# EAGLE library part DMN6066SSD (library Eagle CMR)
60V DUAL N-CHANNEL ENHANCEMENT MODE MOSFET Low on-resistance
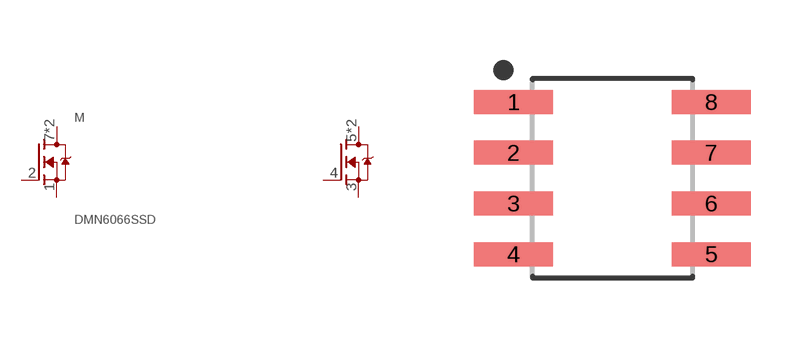
[diagram p16: symbol with the pads of SOIC_8; footprint SOIC_8]

Designator prefix M

## DMN6066SSD (LCSC#: C155334; LCSC_LINK: https://lcsc.com/product-detail/MOSFET_Diodes-Incorporated_DMN6066SSD-13_Diodes-Incorporated-DMN6066SSD-13_C155334.html/?href=jlc-SMT; MANUFACTURER: Diodes Incorporated; MFR#: DMN6066SSD-13)  [SOIC_8]
1  S1
2  G1
3  S2
4  G2
5  D2
6  D2
7  D1
8  D1

## Footprint SOIC_8 (pad centres in mm)
8-SOIC, 1.27 mm pitch, 6.00 mm span, 4.90 X 3.90 X 1.75 mm body 8-pin SOIC package with 1.27 mm pitch, 6.00 mm span with body size 4.90 X 3.90 X 1.75 mm
smd 1.968 x 0.599: 1 -2.473,1.905; 2 -2.473,0.635; 3 -2.473,-0.635; 4 -2.473,-1.905; 5 2.473,-1.905; 6 2.473,-0.635; 7 2.473,0.635; 8 2.473,1.905